# Altium schematic symbol library HFBR-24x2TZ-RX.SchLib: 1 symbol
Pins are listed as number, name and electrical type; pins without a type are passive.

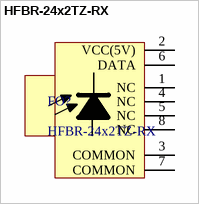
[diagram p0: symbol HFBR-24x2TZ-RX]

## HFBR-24x2TZ-RX
designator FO?
HFBR-24x2TZ-RX fiber optic ST receiver
footprint HFBR-x41xTZ (HFBRx41xTZ ST threaded port fiber optic)
pins: 1 NC, 2 VCC(5V), 3 COMMON, 4 NC, 5 NC, 6 DATA (oc), 7 COMMON, 8 NC